# Altium footprint library 95501-2882.PcbLib: 1 footprints
Each footprint in its own frame and in the unit in brackets; x right, y up, seen from the top. Pads: shape width x height; smd on the part's side, far side on the other; paste and mask are expansions set on the pad; w line width, h text height; cw(c..) or ccw(c..) is an arc to the next point about the centre after c.
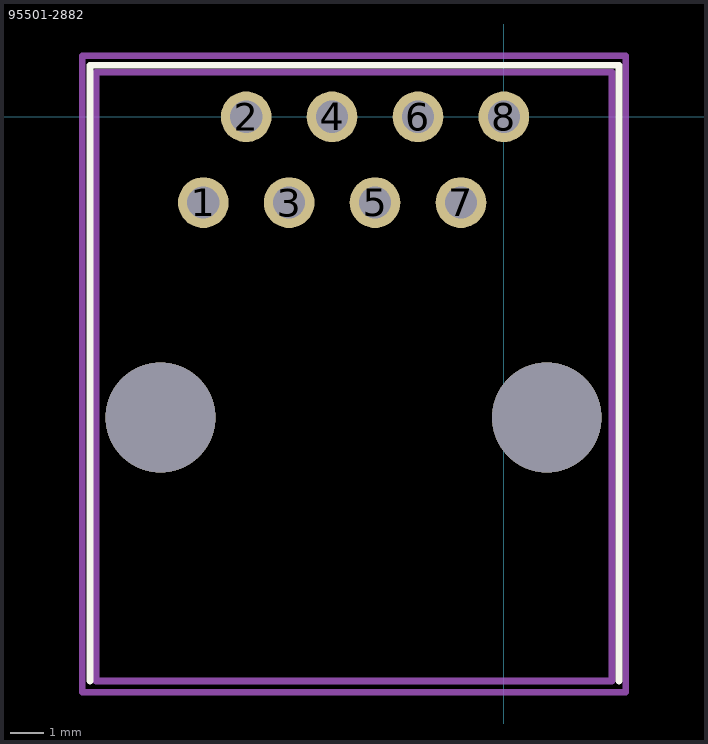
[diagram p0: the footprint, top view; thin cyan lines are the x and y axes]

## 95501-2882 [mm] "Modular Jack, Right-Angle, Through Hole, 8/8, Keyed, Low Profile, Tray"
pads (8):
  round 1.5 hole 0.95 mask+0.07: 1(-8.89,-2.54) 2(-7.62,0) 3(-6.35,-2.54) 4(-5.08,0) 5(-3.81,-2.54) 6(-2.54,0) 7(-1.27,-2.54) 8(0,0)
via 1.27,-8.89 diameter 3.25 hole 3.25
via -10.16,-8.89 diameter 3.25 hole 3.25
Top Overlay:
  lines w0.2: -12.243,-16.688 -12.243,1.524 3.404,1.524 3.404,-16.688
Top Courtyard:
  lines w0.2: -12.471,-17.018 -12.471,1.803 3.607,1.803 3.607,0.94 3.607,-17.018 -12.471,-17.018
Top Assembly:
  lines w0.2: -12.065,-16.69 3.2,-16.69 3.2,1.321 -12.065,1.321 -12.065,-16.69
3D body "955012882.stp": height 1.55, standoff -13.25, extent -12.065,-16.754 3.175,1.346